# EAGLE library part CN3058 (library Public)
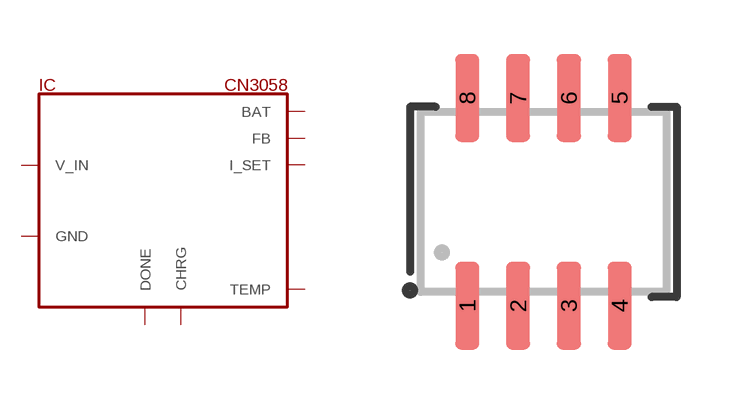
[diagram p102: symbol with the pads of SOP8; footprint SOP8]

Designator prefix IC

## CN3058  [SOP8]
1  TEMP
2  I_SET
3  GND
4  V_IN
5  BAT
6  DONE
7  CHRG
8  FB

## Footprint SOP8 (pad centres in mm)
smd 0.6 x 2.2: 1 -1.905,-2.6; 2 -0.635,-2.6; 3 0.635,-2.6; 4 1.905,-2.6; 5 1.905,2.6; 6 0.635,2.6; 7 -0.635,2.6; 8 -1.905,2.6